# Altium schematic symbol library SCH - POWER - SWITCHMODE - TI TPS54226_RGT_16.SchLib: 1 symbol
Pins are listed as number, name and electrical type; pins without a type are passive.

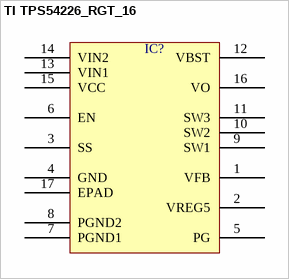
[diagram p0: symbol TI TPS54226_RGT_16]

## TI TPS54226_RGT_16
designator IC?  (value not drawn)
pins: 1 VFB, 2 VREG5, 3 SS, 4 GND, 5 PG, 6 EN, 7 PGND1, 8 PGND2, 9 SW1, 10 SW2, 11 SW3, 12 VBST, 13 VIN1, 14 VIN2, 15 VCC, 16 VO, 17 EPAD